# Altium schematic symbol library baseLib.SchLib: 3 symbols
Pins are listed as number, name and electrical type; pins without a type are passive.

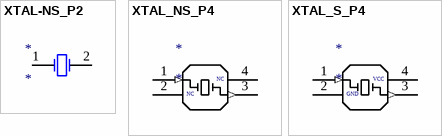
[diagram p0: symbols XTAL-NS_P2 to XTAL_S_P4]

## XTAL-NS_P2
designator *
pins: 1, 2

## XTAL_NS_P4
designator *
footprint SMD_XTAL4P_3225 (XTAL-4Pin)
pins: 1 (in), 2, 3 (out), 4
text: NC

## XTAL_S_P4
designator *
pins: 1 (in), 2 GND (power), 3 (out), 4 VCC (power)